# EAGLE library part FTSH-105-01-*-DV-? (library con-SWD)
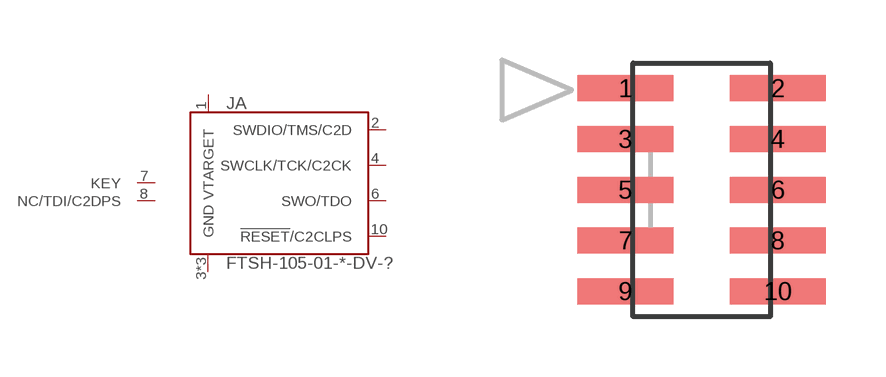
[diagram p0: symbol with the pads of SWD; footprint SWD]

Designator prefix J; gates A=SWD_HEADER B=MISC

## FTSH-105-01-L-DV-K (MF: Samtec; MPN: FTSH-105-01-L-DV-K)  [SWD]
1  A:VTARGET
2  A:SWDIO/TMS/C2D
3  A:GND
4  A:SWCLK/TCK/C2CK
5  A:GND
6  A:SWO/TDO
7  B:KEY
8  B:NC/TDI/C2DPS
9  A:GND
10  A:!RESET!/C2CLPS

## Footprint SWD (pad centres in mm)
smd 2.4 x 0.65: 1 -1.905,2.54; 2 1.905,2.54; 3 -1.905,1.27; 4 1.905,1.27; 5 -1.905,0; 6 1.905,0; 7 -1.905,-1.27; 8 1.905,-1.27; 9 -1.905,-2.54; 10 1.905,-2.54